# Altium schematic symbol library SMD_Lib.SchLib: 7 symbols
Pins are listed as number, name and electrical type; pins without a type are passive.

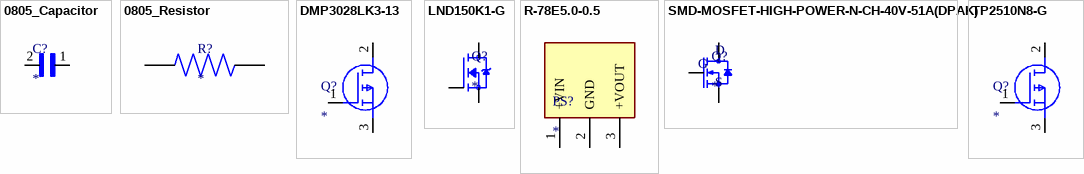
[diagram p0: symbols 0805_Capacitor to TP2510N8-G]

## 0805_Capacitor
designator C?
MP: CL21B104KBCNNNC; MF: Samsung; Availability: Unavailable; Package: 0805 Samsung; Value: *; Price: None; SnapEDA_Link: https://www.snapeda.com/parts/CL21B104KBCNNNC/Samsung/view-part/3597943/?ref=snap
footprint 0805_Capacitor
pins: 1, 2

## 0805_Resistor
designator R?
MF: Yageo; MP: RC0805FR-07910RL; Package: 2012 Rohm Semiconductor; Value: *; Purchase-URL: https://pricing.snapeda.com/search/part/RC0805FR-07910RL/?ref=eda; Availability: In Stock; Price: None
footprint 0805_Resistor
pins: 1, 2

## DMP3028LK3-13
designator Q?
MOSFET (P-Channel); Manufacturer_Name: Diodes Inc.; Manufacturer_Part_Number: DMP3028LK3-13; Datasheet Link: https://componentsearchengine.com/Datasheets/1/DMP3028LK3-13.pdf; Height: 2.39mm; Mouser Part Number: 621-DMP3028LK3-13; Mouser Price/Stock: https://www.mouser.co.uk/ProductDetail/Diodes-Incorporated/DMP3028LK3-13?qs=OVC8WVYZliSFpRP3sPErZQ%3D%3D; Arrow Part Number: DMP3028LK3-13; Arrow Price/Stock: https://www.arrow.com/en/products/dmp3028lk3-13/diodes-incorporated
footprint DMP3028LK313
pins: 1 G, 2 D, 3 S

## LND150K1-G
designator Q?
MOSFET, DEPLETION-MODE, 500V, 1K Ohm3 SOT-23 T/R | Microchip Technology Inc. LND150K1-G; SnapEDA_Link: https://www.snapeda.com/parts/LND150K1-G/Microchip/view-part/?ref=snap; Package: SOT-23 Microchip; Value: *; MF: Microchip; MP: LND150K1-G; Check_prices: https://www.snapeda.com/parts/LND150K1-G/Microchip/view-part/?ref=eda
footprint SOT93-NMOS
pins: 1 G, 2 D, 3 S

## R-78E5.0-0.5
designator PS?
Power Supply; Manufacturer_Name: RECOM Power; Manufacturer_Part_Number: R-78E5.0-0.5; Datasheet Link: https://datasheet.datasheetarchive.com/originals/distributors/Datasheets_SAMA/1560217c2d38d5ce10907af13420fc49.pdf; Height: 10.9mm; Mouser Part Number: 919-R-78E5.0-0.5; Mouser Price/Stock: https://www.mouser.co.uk/ProductDetail/RECOM-Power/R-78E5.0-0.5?qs=JeAkOuORR2UvBuiB2kZVZQ%3D%3D; Arrow Part Number: R-78E5.0-0.5; Arrow Price/Stock: https://www.arrow.com/en/products/r-78e5.0-0.5/recom-power?region=europe
footprint R78E5005
pins: 1 +VIN, 2 GND, 3 +VOUT

## SMD-MOSFET-HIGH-POWER-N-CH-40V-51A(DPAK)
designator Q?
N-Channel 40V 51A (Tc) 47W (Tc) Surface Mount DPAK; MP: NTD5805NT4G; MF: ON Semiconductor; Package: TO-252-3 MICROSS/On Semiconductor; SnapEDA_Link: https://www.snapeda.com/parts/NTD5805NT4G/Onsemi/view-part/106188/?ref=snap; Value: *; Availability: Not in stock; Price: None; Check_prices: https://www.snapeda.com/parts/NTD5805NT4G/Onsemi/view-part/106188/?ref=eda
footprint DPAK_(SINGLE-GAUGE)_TO-252(369C)_ISSUE_F
pins: 1 G, 2 S, 3 D

## TP2510N8-G
designator Q?
MOSFET (P-Channel); Manufacturer_Name: Diodes Inc.; Manufacturer_Part_Number: DMP3028LK3-13; Datasheet Link: https://componentsearchengine.com/Datasheets/1/DMP3028LK3-13.pdf; Height: 2.39mm; Mouser Part Number: 621-DMP3028LK3-13; Mouser Price/Stock: https://www.mouser.co.uk/ProductDetail/Diodes-Incorporated/DMP3028LK3-13?qs=OVC8WVYZliSFpRP3sPErZQ%3D%3D; Arrow Part Number: DMP3028LK3-13; Arrow Price/Stock: https://www.arrow.com/en/products/dmp3028lk3-13/diodes-incorporated
footprint TP2510N8-G
pins: 1 G, 2 D, 3 S